# EAGLE library part MCP6S22 (library mcp6s22 smd)
MCP6S212 SOIC (smd) package Single-Ended, Rail-to-Rail I/O, Low Gain PGA By Rangana Tennakoon
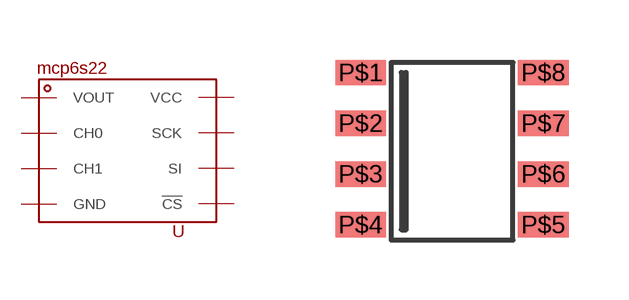
[diagram p0: symbol with the pads of SOP8; footprint SOP8]

Designator prefix -

## MCP6S22SOP8  [SOP8]
P$1  VOUT
P$2  CH0
P$3  CH1
P$4  GND
P$5  !CS!
P$6  SI
P$7  SCK
P$8  VCC

## Footprint SOP8 (pad centres in mm)
smd 1.27 x 0.635: P$1 -2.413,1.778; P$2 -2.413,0.508; P$3 -2.413,-0.762; P$4 -2.413,-2.032; P$5 2.159,-2.032; P$6 2.159,-0.762; P$7 2.159,0.508; P$8 2.159,1.778